# Altium footprint library CNC_TECH_3020-10-0100-XX.PcbLib: 1 footprints
Each footprint in its own frame and in the unit in brackets; x right, y up, seen from the top. Pads: shape width x height; smd on the part's side, far side on the other; paste and mask are expansions set on the pad; w line width, h text height; cw(c..) or ccw(c..) is an arc to the next point about the centre after c.
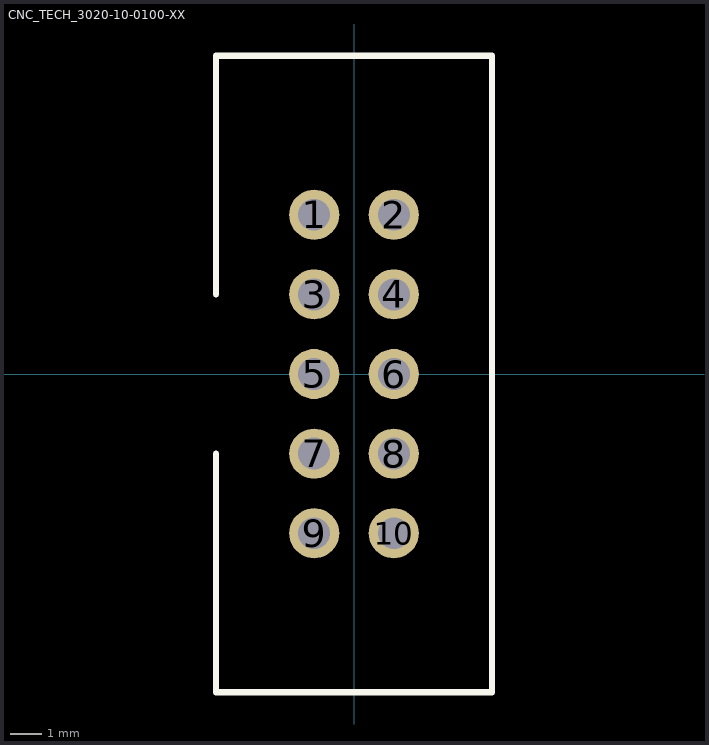
[diagram p0: the footprint, top view; thin cyan lines are the x and y axes]

## CNC_TECH_3020-10-0100-XX [mm]
pads (10):
  round 1.6 hole 1.02: 1(-1.27,5.08) 2(1.27,5.08) 3(-1.27,2.54) 4(1.27,2.54) 5(-1.27,0) 6(1.27,0) 7(-1.27,-2.54) 8(1.27,-2.54) 9(-1.27,-5.08) 10(1.27,-5.08)
Top Overlay:
  lines w0.2: -4.4,-2.54 -4.4,-10.15 4.4,-10.15 4.4,10.15 -4.4,10.15 -4.4,2.54
3D body "3020-10-0100-xx.SLDPRT": height 9, standoff -3, extent -4.4,-10.16 4.4,10.16